# Altium schematic symbol library etap1.SchLib: 6 symbols
Pins are listed as number, name and electrical type; pins without a type are passive.

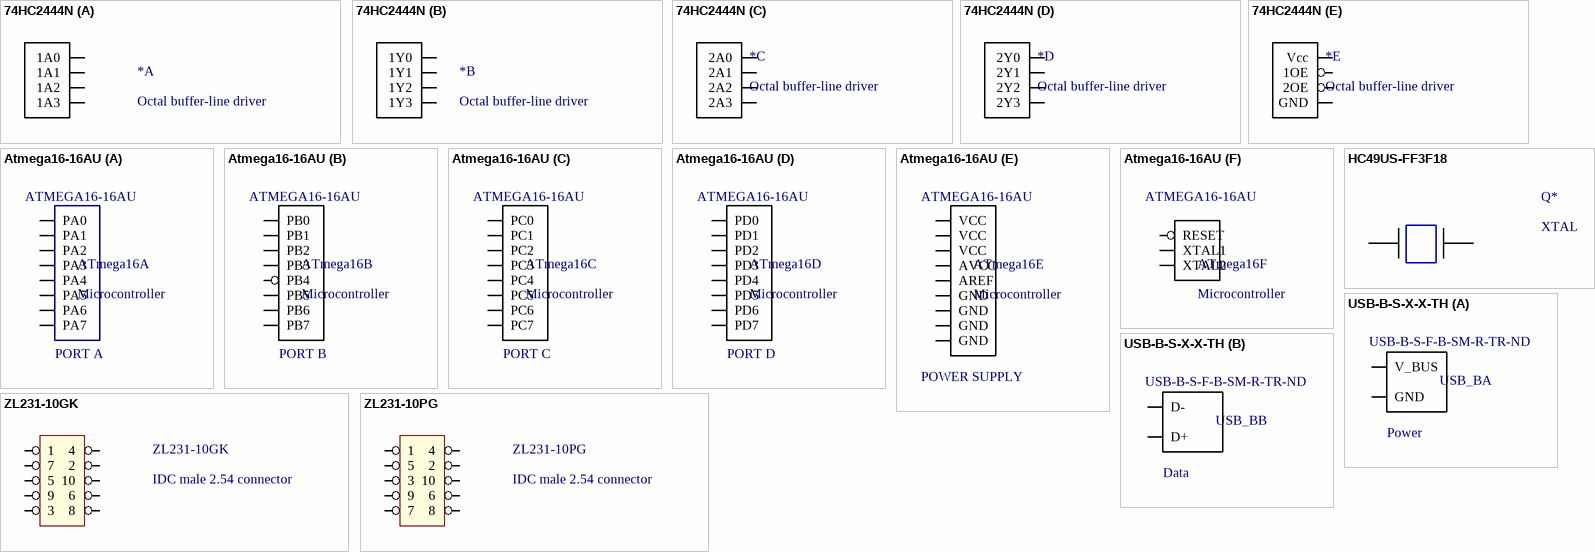
[diagram p0: symbols 74HC2444N to ZL231-10PG]

## 74HC2444N
designator *, comment Octal buffer-line driver
HelpURL: http://www.nxp.com/documents/data_sheet/74HC_HCT244.pdf
part A pins: 2 1A0, 4 1A1, 6 1A2, 8 1A3
part B pins: 12 1Y3, 14 1Y2, 16 1Y1, 18 1Y0
part C pins: 11 2A3, 13 2A2, 15 2A1, 17 2A0
part D pins: 3 2Y0, 5 2Y1, 7 2Y2, 9 2Y3
part E pins: 1 1OE, 10 GND, 19 2OE, 20 Vcc

## Atmega16-16AU
designator ATmega16, comment Microcontroller  Supplier Part Number 1: ATMEGA16-16AU
Microcontroller with 16k bytes in-system programmable flash; HelpURL: http://www.atmel.com/images/doc2466.pdf; Supplier 1: Arrow
footprint TQFP44
part A pins: 30 PA7 "ADC7", 31 PA6 "ADC6", 32 PA5 "ADC5", 33 PA4 "ADC4", 34 PA3 "ADC3", 35 PA2 "ADC2", 36 PA1 "ADC1", 37 PA0 "ADC0"
part B pins: 1 PB5 "MOSI", 2 PB6 "MISO", 3 PB7 "SCK", 40 PB0 "XCK/T0", 41 PB1 "T1", 42 PB2 "AIN0/INT2", 43 PB3 "AIN1/OC0", 44 PB4 "SS"
part C pins: 19 PC0 "SCL", 20 PC1 "SDA", 21 PC2 "TCK", 22 PC3 "TMS", 23 PC4 "TDO", 24 PC5 "TDI", 25 PC6 "TOSC1", 26 PC7 "TOSC2"
part D pins: 9 PD0 "RXD", 10 PD1 "TXD", 11 PD2 "INT0", 12 PD3 "INT1", 13 PD4 "OC1B", 14 PD5 "OC1A", 15 PD6 "ICP1", 16 PD7 "OC2"
part E pins: 5 VCC, 6 GND, 17 VCC, 18 GND, 27 AVCC "Supply voltage pin for Port A and the A/D Converter", 28 GND, 29 AREF, 38 VCC, 39 GND
part F pins: 4 RESET, 7 XTAL2 "Output from the inverting Oscillator amplifier", 8 XTAL1 "Input to the inverting Oscillator amplifier and input to the internal clock operating circuit"
part A text: PORT A
part B text: PORT B
part C text: PORT C
part D text: PORT D
part E text: POWER SUPPLY

## HC49US-FF3F18
designator Q*, comment XTAL
HelpURL: http://www.tme.eu/pl/Document/6c671fc2d1c29550257ca2d207d0534f/HC49US_Series.pdf
pins: 1, 2

## USB-B-S-X-X-TH
designator USB_B  Supplier Part Number 1: USB-B-S-F-B-SM-R-TR-ND
USB-B interface; HelpURL: http://suddendocs.samtec.com/prints/usb-b-s-x-x-th-x-xx-mkt.pdf; Supplier 1: Digikey
footprint USB_B
part A pins: 1 V_BUS, 4 GND
part B pins: 2 D-, 3 D+
part A text: Power
part B text: Data

## ZL231-10GK
designator ZL231-10GK, comment IDC male 2.54 connector
HelpURL: http://www.tme.eu/pl/Document/a5b2714ead43607db121b5860f7e140e/ZL231.pdf; Supplier 1: TME; Supplier Part Number 1: ZL231-10PG
pins: 1, 2, 3, 4, 5, 6, 7, 8, 9, 10

## ZL231-10PG
designator ZL231-10PG, comment IDC male 2.54 connector
HelpURL: http://www.tme.eu/pl/Document/a5b2714ead43607db121b5860f7e140e/ZL231.pdf; Supplier 1: TME; Supplier Part Number 1: ZL231-10PG
pins: 1, 2, 3, 4, 5, 6, 7, 8, 9, 10